# EAGLE library part TPS61032PWPR (library TPS61032)
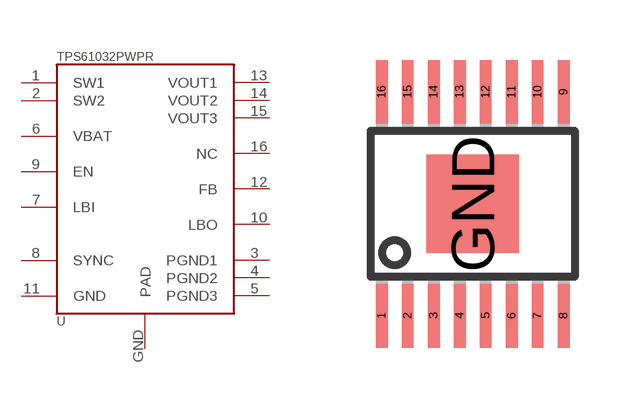
[diagram p0: symbol with the pads of HTSSOP16PWP; footprint HTSSOP16PWP]

Designator prefix U

## TPS61032PWPR  [HTSSOP16PWP]
1  SW1
2  SW2
3  PGND1
4  PGND2
5  PGND3
6  VBAT
7  LBI
8  SYNC
9  EN
10  LBO
11  GND
12  FB
13  VOUT1
14  VOUT2
15  VOUT3
16  NC
GND  PAD

## Footprint HTSSOP16PWP (pad centres in mm)
TPS40055PWP (R-PDSO-G**) PowerPAD (TM) 16 pol. PLASTIC SMALL-OUTLINE PACKAGE Source: www.ti.com ... TPS40055 package.pdf & slma002.pdf
smd 0.3 x 1.6: 1 -2.275,-2.8; 2 -1.625,-2.8; 3 -0.975,-2.8; 4 -0.325,-2.8; 5 0.325,-2.8; 6 0.975,-2.8; 7 1.625,-2.8; 8 2.275,-2.8; 9 2.275,2.8; 10 1.625,2.8; 11 0.975,2.8; 12 0.325,2.8; 13 -0.325,2.8; 14 -0.975,2.8; 15 -1.625,2.8; 16 -2.275,2.8
smd 2.31 x 2.46: GND 0,0